# Altium schematic symbol library Components - 23.04.26 - 21.10.SchLib: 1 symbol
Pins are listed as number, name and electrical type; pins without a type are passive.

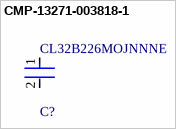
[diagram p0: symbol CMP-13271-003818-1]

## CMP-13271-003818-1
designator C?, comment CL32B226MOJNNNE
Cap Ceramic 22uF 16V X7R ±20% SMD 1210 +125°C Embossed T/R; Mount: Surface Mount; Case/Package: 1210; Case Code (Imperial): 1210; Depth: 2.5mm; Packaging: Tape and Reel; Case Code (Metric): 3225; Package Quantity: 1; Min Operating Temperature: -55°C; Dielectric: X7R; Height: 2.5mm; Length: 3.2mm; Max Operating Temperature: 125°C; Thickness: 0.106inch; Capacitance: 22uF; Width: 0.098inch; Tolerance: 20%; Voltage Rating: 16V; Radiation Hardening: No
footprint FP-CL32-IPC_A
footprint FP-CL32-IPC_C
footprint FP-CL32-IPC_B
pins: 1, 2